# EAGLE library part NX3008CBKV,115 (library TRANSISTORs)
Mosfet Array N and P-Channel 30V 400mA, 220mA 500mW Surface Mount SOT-666
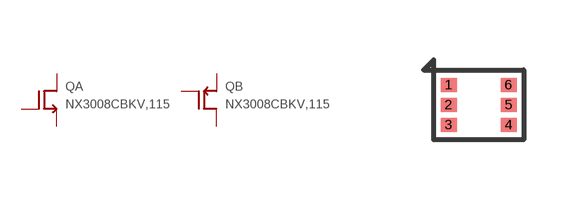
[diagram p6: symbol with the pads of SOT666; footprint SOT666]

Designator prefix Q; gates A=N_FET B=P_FET

## NX3008CBKV,115 (DIGIKEY: 1727-1279-1-ND; HEIGHT: 1; PRICE_PER: 0.29; VALUE: NX3008CBKV)  [SOT666]
1  A:S
2  A:G
3  B:D
4  B:S
5  B:G
6  A:D

## Footprint SOT666 (pad centres in mm)
smd 0.4 x 0.35: 1 -0.75,0.5; 2 -0.75,0; 3 -0.75,-0.5; 4 0.75,-0.5; 5 0.75,0; 6 0.75,0.5